# Altium footprint library PCBLib.PcbLib: 32 footprints (part 2 of 2)
Each footprint in its own frame and in the unit in brackets; x right, y up, seen from the top. Pads: shape width x height; smd on the part's side, far side on the other; paste and mask are expansions set on the pad; w line width, h text height; cw(c..) or ccw(c..) is an arc to the next point about the centre after c.
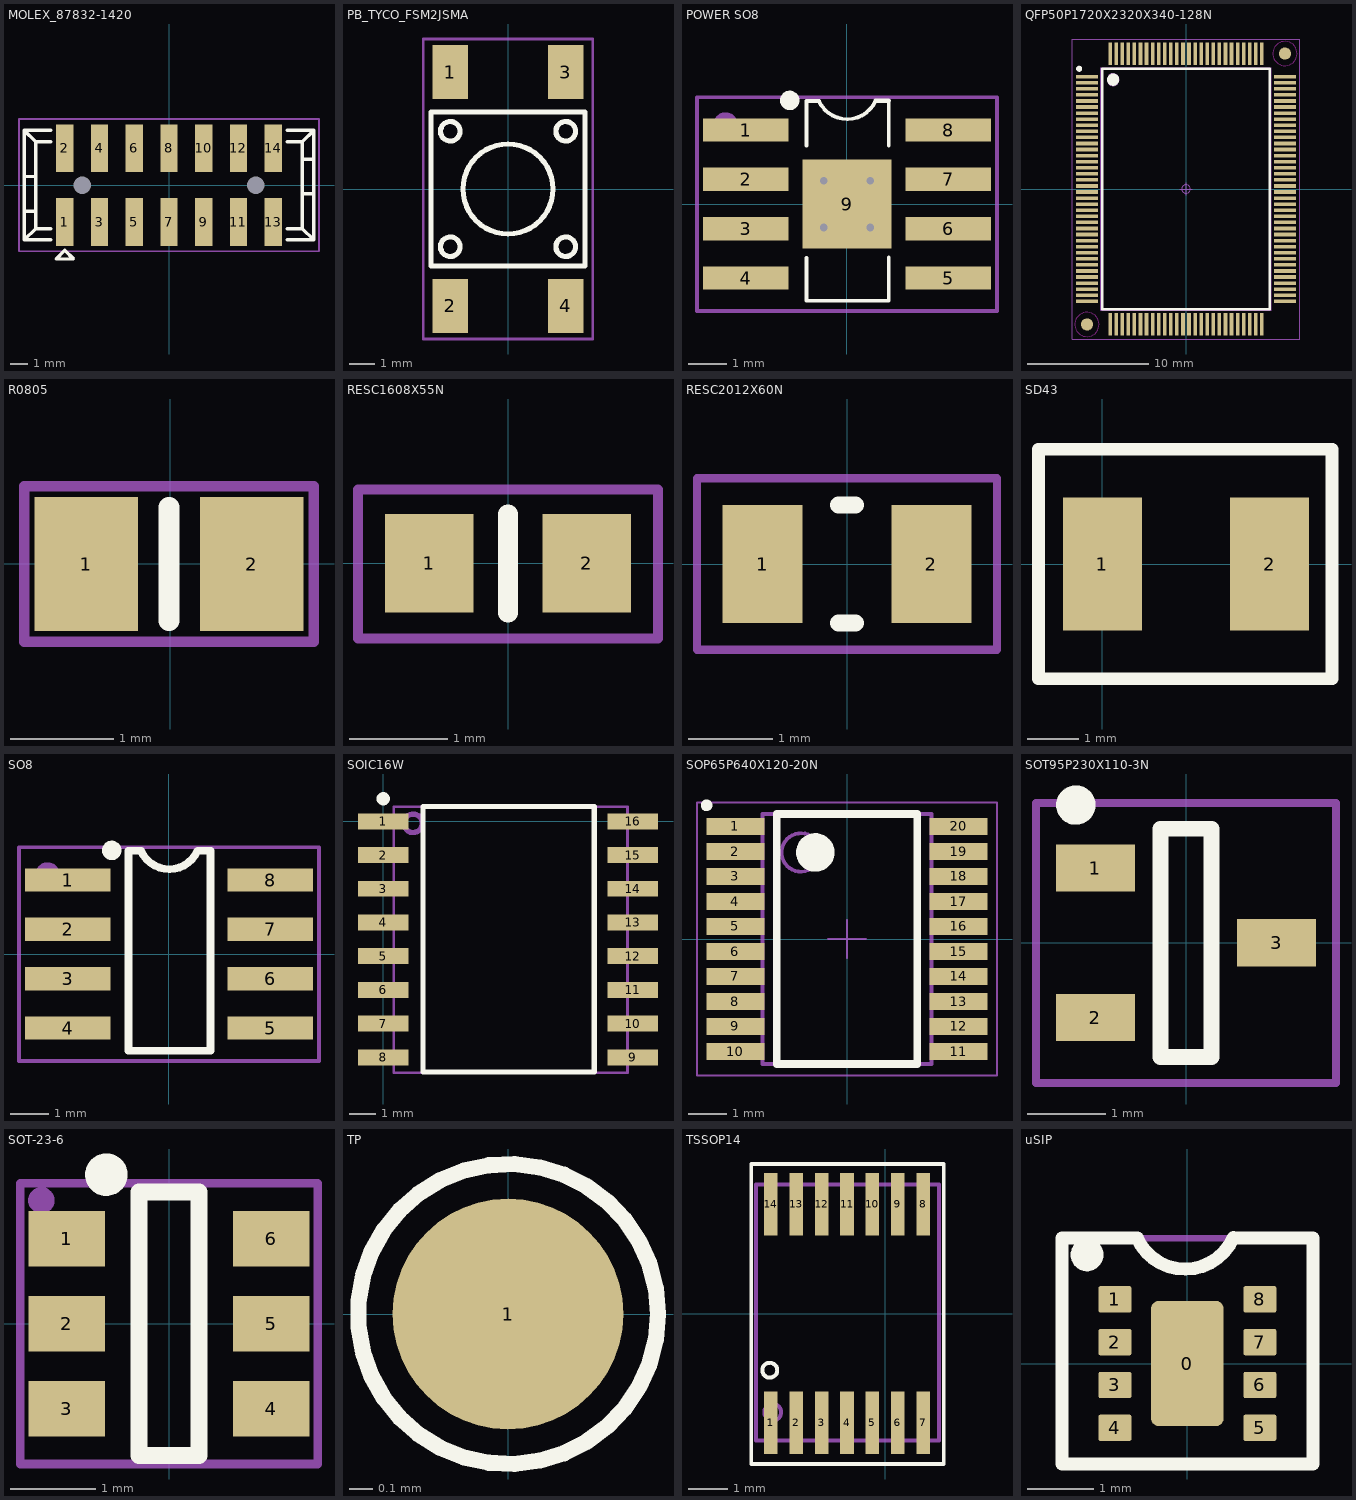
[diagram p1: the footprints below, top view; thin cyan lines are the x and y axes]

## MOLEX_87832-1420 [mm] "Milli-Grid, Pitch 2mm, 14 contacts, Surface Mount Vertical Header With Locking Window And Centre Polarization Slot"
height 6.4
pads (16):
  rect 1x2.75 smd: 1(-6,-2.125) 2(-6,2.125) 3(-4,-2.125) 4(-4,2.125) 5(-2,-2.125) 6(-2,2.125) 7(0,-2.125) 8(0,2.125) 9(2,-2.125) 10(2,2.125) 11(4,-2.125) 12(4,2.125) 13(6,-2.125) 14(6,2.125)
  round 0.5 hole 1 unplated: ""(-5,0) ""(5,0)
Top Overlay:
  lines w0.2: -8.325,-1.5 -7.675,-1.5 ; -8.325,0.5 -7.675,0.5 ; -6.8,-3.15 -8.325,-3.15 ; -6.8,-2.5 -7.675,-2.5 ; -6.8,2.5 -7.675,2.5 ; -6.8,3.15 -8.325,3.15 ; 6.8,-3.15 8.325,-3.15 ; 6.8,-2.5 7.675,-2.5 ; 6.8,2.5 7.675,2.5 ; 6.8,3.15 8.325,3.15 ; 7.675,-0.5 8.325,-0.5 ; 7.675,1.5 8.325,1.5 ; -8.325,-3.15 -8.325,3.15 ; -8.325,-3.15 -7.675,-2.5 ; -8.325,3.15 -7.675,2.5 ; -7.675,-2.5 -7.675,2.5 ; 7.675,-2.5 8.325,-3.15 ; 7.675,-2.5 8.325,-3.15 ; 7.675,-2.5 7.675,2.5 ; 7.675,2.5 8.325,3.15 ; 7.675,2.5 8.325,3.15 ; 8.325,-3.15 8.325,3.15 ; -6.5,-4.25 -6,-3.75 -5.5,-4.25 -6.5,-4.25
Mechanical 4:
  lines w0.1: -8.636,-3.81 8.636,-3.81 8.636,3.81 -8.636,3.81 -8.636,-3.81
  text ".Designator" at -0.111,-0.069 h1
3D body "MOLEX_87832-1420.stp": height 7.6, standoff -1, extent -8.325,-3.15 8.325,3.15

## PB_TYCO_FSM2JSMA [mm] "Body 6mm x 6mm, Surface Mount Tactile Switches, TYCO FSMJSMA Series"
height 4.59
pads (4):
  rect 1.4x2.1 smd: 1(-2.25,4.55) 2(-2.25,-4.55) 3(2.25,4.55) 4(2.25,-4.55)
Top Overlay:
  circle w0.2: c-2.248,-2.248 r0.381
  circle w0.2: c-2.248,2.248 r0.381
  circle w0.2: c2.248,-2.248 r0.381
  circle w0.2: c2.248,2.248 r0.381
  circle w0.2: c0,0 r1.753
  lines w0.2: -3,-3 3,-3 3,3 -3,3 -3,-3
Mechanical 4:
  lines w0.1: -3.302,-5.842 3.302,-5.842 3.302,5.842 -3.302,5.842 -3.302,-5.842
  text ".Designator" at -0.111,-0.069 h1
3D body "PB_TYCO_FSM2JSMA.stp": height 4.39, standoff 0, extent -3,-5 3,5

## POWER SO8 [mm]
pads (9):
  rect 2.2x0.6 smd: 1(-2.603,1.905) 2(-2.603,0.635) 3(-2.603,-0.635) 4(-2.603,-1.905) 5(2.603,-1.905) 6(2.603,-0.635) 7(2.603,0.635) 8(2.603,1.905)
  rect 2.29x2.29 smd: 9(0,0)
via -0.6,-0.6 diameter 0.6 hole 0.2
via 0.6,-0.6 diameter 0.6 hole 0.2
via 0.6,0.6 diameter 0.6 hole 0.2
via -0.6,0.6 diameter 0.6 hole 0.2
Top Overlay:
  circle w0.25: c-1.473,2.667 r0.125
  lines w0.1: -1.041,-1.384 -1.041,-2.489 1.075,-2.489 1.075,-1.375 ; -1.041,1.509 -1.041,2.656 -0.722,2.656 ccw(c0.007,2.982) 0.737,2.662 ; 1.075,1.5 1.075,2.662
  lines w0.11: 0.737,2.662 1.075,2.662
Mechanical 4:
  circle w0.2: c-3.125,2.05 r0.212
  lines w0.1: -3.861,-2.75 3.861,-2.75 3.861,2.75 -3.861,2.75 -3.861,-2.75
  text ".Designator" at 0,0 h1
3D body "so8.STEP": height 1.84, standoff 0.08, extent -3.068,-2.425 3.068,2.465

## QFP50P1720X2320X340-128N [mm] "QFP,0.50mm Pitch, Rect.; 128 pin, 20.00mm L X 14.00mm W X 3.40mm H body, IPC Medium Density"
height 3.4
pads (130):
  rect 1.85x0.3 smd: 1(-8.15,9.25) 2(-8.15,8.75) 3(-8.15,8.25) 4(-8.15,7.75) 5(-8.15,7.25) 6(-8.15,6.75) 7(-8.15,6.25) 8(-8.15,5.75) 9(-8.15,5.25) 10(-8.15,4.75) 11(-8.15,4.25) 12(-8.15,3.75) 13(-8.15,3.25) 14(-8.15,2.75) 15(-8.15,2.25) 16(-8.15,1.75) 17(-8.15,1.25) 18(-8.15,0.75) 19(-8.15,0.25) 20(-8.15,-0.25) 21(-8.15,-0.75) 22(-8.15,-1.25) 23(-8.15,-1.75) 24(-8.15,-2.25) 25(-8.15,-2.75) 26(-8.15,-3.25) 27(-8.15,-3.75) 28(-8.15,-4.25) 29(-8.15,-4.75) 30(-8.15,-5.25) 31(-8.15,-5.75) 32(-8.15,-6.25) 33(-8.15,-6.75) 34(-8.15,-7.25) 35(-8.15,-7.75) 36(-8.15,-8.25) 37(-8.15,-8.75) 38(-8.15,-9.25) 65(8.15,-9.25) 66(8.15,-8.75) 67(8.15,-8.25) 68(8.15,-7.75) 69(8.15,-7.25) 70(8.15,-6.75) 71(8.15,-6.25) 72(8.15,-5.75) 73(8.15,-5.25) 74(8.15,-4.75) 75(8.15,-4.25) 76(8.15,-3.75) 77(8.15,-3.25) 78(8.15,-2.75) 79(8.15,-2.25) 80(8.15,-1.75) 81(8.15,-1.25) 82(8.15,-0.75) 83(8.15,-0.25) 84(8.15,0.25) 85(8.15,0.75) 86(8.15,1.25) 87(8.15,1.75) 88(8.15,2.25) 89(8.15,2.75) 90(8.15,3.25) 91(8.15,3.75) 92(8.15,4.25) 93(8.15,4.75) 94(8.15,5.25) 95(8.15,5.75) 96(8.15,6.25) 97(8.15,6.75) 98(8.15,7.25) 99(8.15,7.75) 100(8.15,8.25) 101(8.15,8.75) 102(8.15,9.25)
  rect 0.3x1.85 smd: 39(-6.25,-11.15) 40(-5.75,-11.15) 41(-5.25,-11.15) 42(-4.75,-11.15) 43(-4.25,-11.15) 44(-3.75,-11.15) 45(-3.25,-11.15) 46(-2.75,-11.15) 47(-2.25,-11.15) 48(-1.75,-11.15) 49(-1.25,-11.15) 50(-0.75,-11.15) 51(-0.25,-11.15) 52(0.25,-11.15) 53(0.75,-11.15) 54(1.25,-11.15) 55(1.75,-11.15) 56(2.25,-11.15) 57(2.75,-11.15) 58(3.25,-11.15) 59(3.75,-11.15) 60(4.25,-11.15) 61(4.75,-11.15) 62(5.25,-11.15) 63(5.75,-11.15) 64(6.25,-11.15) 103(6.25,11.15) 104(5.75,11.15) 105(5.25,11.15) 106(4.75,11.15) 107(4.25,11.15) 108(3.75,11.15) 109(3.25,11.15) 110(2.75,11.15) 111(2.25,11.15) 112(1.75,11.15) 113(1.25,11.15) 114(0.75,11.15) 115(0.25,11.15) 116(-0.25,11.15) 117(-0.75,11.15) 118(-1.25,11.15) 119(-1.75,11.15) 120(-2.25,11.15) 121(-2.75,11.15) 122(-3.25,11.15) 123(-3.75,11.15) 124(-4.25,11.15) 125(-4.75,11.15) 126(-5.25,11.15) 127(-5.75,11.15) 128(-6.25,11.15)
  round 1 smd paste-0.51 mask+0.5: FTG1(-8.15,-11.15) FTG2(8.15,11.15)
Top Layer keep-out:
  circle w0.1: c8.15,11.15 r1
  circle w0.1: c-8.15,-11.15 r1
Top Overlay:
  circle w0.25: c-8.8,9.9 r0.125
  circle w0.5: c-6,9 r0.25
  lines w0.2: -6.9,-9.9 -6.9,9.9 6.9,9.9 6.9,-9.9 -6.9,-9.9
Mechanical 14:
  circle w0.1: c-6,9 r0.5
  lines w0.1: -7,-10 -7,10 7,10 7,-10 -7,-10
Mechanical 15:
  circle w0.05: c0,0 r0.35
  lines w0.05: -0.5,0 0.5,0 ; 0,-0.5 0,0.5 ; -9.35,-12.35 -9.35,12.35 9.35,12.35 9.35,-12.35 -9.35,-12.35
3D body "QFP50P1720X2320X340-128N.stp": height 3.4, standoff 0, extent -8.621,-11.621 8.621,11.621

## R0805 [mm] "R0805"
pads (2):
  rect 1x1.3 smd: 1(-0.813,0) 2(0.787,0)
Top Overlay:
  lines w0.2: -0.013,-0.55 -0.013,-0.275 -0.013,0.275 -0.013,0.55
Mechanical 4:
  lines w0.1: -1.413,-0.75 1.387,-0.75 1.387,0.75 -1.413,0.75 -1.413,-0.75
  text ".Designator" at -1.27,-0.508 h1
3D body "R0805.STEP": height 0.78, standoff 0, extent -1,-0.625 1,0.625

## RESC1608X55N [mm] "Chip Resistor, EIA 0603, Metric 1608, Body 1.6x0.8mm, IPC Medium Density"
height 0.55
pads (2):
  rect 0.9x1 smd: 1(-0.8,0) 2(0.8,0)
Top Overlay:
  lines w0.2: 0,-0.5 0,0.5
Mechanical 4:
  lines w0.1: -1.524,-0.762 1.524,-0.762 1.524,0.75 -1.524,0.75 -1.524,-0.762
  text ".Designator" at -1.397,-0.508 h1
3D body "RESC1608X55N.stp": height 0.55, standoff 0, extent -0.875,-0.475 0.875,0.475

## RESC2012X60N [mm] "Chip Resistor, EIA 0805, Metric 2012, Body 2.0x1.2mm, IPC Medium Density"
height 0.6
pads (2):
  rect 0.95x1.4 smd: 1(-1,0) 2(1,0)
Top Overlay:
  lines w0.2: -0.1,-0.7 0.1,-0.7 ; -0.1,0.7 0.1,0.7
Mechanical 4:
  lines w0.1: -1.778,-1.016 -1.778,1.016 1.778,1.016 1.778,-1.016 -1.778,-1.016
  text ".Designator" at -1.524,-0.508 h1
3D body "RESC2012X60N.stp": height 0.6, standoff 0, extent -1.1,-0.675 1.1,0.675

## SD43 [mm]
pads (2):
  rect 1.55x2.6 smd: 1(0,0) 2(3.28,0)
Top Overlay:
  lines w0.25: -1.25,-2.25 -1.25,2.25 4.5,2.25 4.5,-2.25 -1.25,-2.25
3D body "Coilcraft-SD43.STEP": height 3.45, standoff 0, extent -0.689,-2.1 3.939,2.1

## SO8 [mm]
pads (8):
  rect 2.2x0.6 smd: 1(-2.603,1.905) 2(-2.603,0.635) 3(-2.603,-0.635) 4(-2.603,-1.905) 5(2.603,-1.905) 6(2.603,-0.635) 7(2.603,0.635) 8(2.603,1.905)
Top Overlay:
  circle w0.25: c-1.473,2.667 r0.125
  lines w0.2: -1.041,-2.489 1.067,-2.489 1.067,2.662 0.737,2.662 cw(c0.007,2.982) -0.722,2.656 -1.041,2.656 -1.041,-2.489
Mechanical 4:
  circle w0.2: c-3.125,2.05 r0.212
  lines w0.1: -3.861,-2.75 3.861,-2.75 3.861,2.75 -3.861,2.75 -3.861,-2.75
  text ".Designator" at 0,0 h1
3D body "so8.STEP": height 1.84, standoff 0.08, extent -3.068,-2.425 3.068,2.465

## SOIC16W [mm] "SOIC, 16-Leads, Body 9,90x3,90mm, Pitch 1,27mm, IPC Medium Density (Narrow)"
height 1.75
pads (16):
  rect 1.9x0.6 smd: 1(0,0) 2(0,-1.27) 3(0,-2.54) 4(0,-3.81) 5(0,-5.08) 6(0,-6.35) 7(0,-7.62) 8(0,-8.89) 9(9.4,-8.89) 10(9.4,-7.62) 11(9.4,-6.35) 12(9.4,-5.08) 13(9.4,-3.81) 14(9.4,-2.54) 15(9.4,-1.27) 16(9.4,0)
Top Overlay:
  circle w0.25: c0,0.85 r0.125
  lines w0.2: 1.5,-9.445 7.95,-9.445 7.95,0.555 1.5,0.555 1.5,-9.445
Mechanical 4:
  circle w0.2: c1.125,-0.075 r0.347
  lines w0.1: 0.4,-9.475 9.2,-9.475 9.2,0.55 0.4,0.55 0.4,-9.475
  text ".Designator" at 3.625,-4.875 h1
3D body "User Library-so16w.STEP": height 3.5, standoff 0, extent -0.35,-9.562 9.95,0.638

## SOP65P640X120-20N [mm] "SOP, 20-Leads, Body 6.5x4.4mm, Pitch 0.65mm, IPC Medium Density"
height 1.2
pads (20):
  rect 1.5x0.45 smd: 1(-2.9,2.925) 2(-2.9,2.275) 3(-2.9,1.625) 4(-2.9,0.975) 5(-2.9,0.325) 6(-2.9,-0.325) 7(-2.9,-0.975) 8(-2.9,-1.625) 9(-2.9,-2.275) 10(-2.9,-2.925) 11(2.9,-2.925) 12(2.9,-2.275) 13(2.9,-1.625) 14(2.9,-0.975) 15(2.9,-0.325) 16(2.9,0.325) 17(2.9,0.975) 18(2.9,1.625) 19(2.9,2.275) 20(2.9,2.925)
Top Overlay:
  circle w0.254: c-3.65,3.475 r0.025
  circle w0.5: c-0.825,2.25 r0.25
  lines w0.2: -1.825,-3.25 -1.825,3.25 1.825,3.25 1.825,-3.25 -1.825,-3.25
Mechanical 14:
  circle w0.1: c-1.2,2.25 r0.5
  lines w0.1: -2.2,-3.25 -2.2,3.25 2.2,3.25 2.2,-3.25 -2.2,-3.25
Mechanical 15:
  lines w0.05: -0.5,0 0.5,0 ; 0,-0.5 0,0.5 ; -3.9,-3.55 -3.9,3.55 3.9,3.55 3.9,-3.55 -3.9,-3.55
3D body "SOP65P640X120-20N.stp": height 1.2, standoff 0, extent -3.121,-3.3 3.121,3.3

## SOT95P230X110-3N [mm] "SOT23, 3 pin, Pitch 0.95mm - 1.3mm W X 2.9mm L X 1.1mm H, IPC Medium Density"
height 1.1
pads (3):
  rect 1x0.6 smd: 1(-1.15,0.95) 2(-1.15,-0.95) 3(1.15,0)
Top Overlay:
  circle w0.25: c-1.4,1.75 r0.125
  lines w0.2: -0.325,-1.45 0.325,-1.45 0.325,1.45 -0.325,1.45 -0.325,-1.45
Mechanical 4:
  lines w0.1: -1.905,-1.778 1.905,-1.778 1.905,1.778 -1.905,1.778 -1.905,-1.778
  text ".Designator" at -1.016,-0.254 h1
3D body "SOT95P240X110-3N.stp": height 1.1, standoff 0, extent -1.166,-1.5 1.334,1.5

## SOT-23-6 [mm] "SOT23, 6-Leads, Body 3x1.5mm, Pitch 1mm, Lead Span 2.7mm, IPC High Density_LT6654AHS6-1.25#TRMPBF"
height 1.1
pads (6):
  rect 0.9x0.65 smd: 1(-1.2,1) 2(-1.2,0) 3(-1.2,-1) 4(1.2,-1) 5(1.2,0) 6(1.2,1)
Top Overlay:
  circle w0.25: c-0.737,1.753 r0.125
  lines w0.2: -0.35,-1.55 0.35,-1.55 0.35,1.55 -0.35,1.55 -0.35,-1.55
Mechanical 4:
  circle w0.2: c-1.5,1.45 r0.056
  lines w0.1: -1.75,-1.65 1.75,-1.65 1.75,1.65 -1.75,1.65 -1.75,-1.65
  text ".designator" at -1.016,-0.381 h1
3D body "SW3dPS-SOT-23-6.STEP": height 1.09, standoff 0, extent -1.213,-1.397 1.213,1.397

## TP [mm]
pads (1):
  round 1 smd: 1(0,0)
Top Overlay:
  circle w0.07: c0,0 r0.65

## TSSOP14 [mm]
pads (14):
  rect 0.35x1.6 smd: 1(-2.925,-2.8) 2(-2.275,-2.8) 3(-1.625,-2.8) 4(-0.975,-2.8) 5(-0.325,-2.8) 6(0.325,-2.8) 7(0.975,-2.8) 8(0.975,2.8) 9(0.325,2.8) 10(-0.325,2.8) 11(-0.975,2.8) 12(-1.625,2.8) 13(-2.275,2.8) 14(-2.925,2.8)
Top Overlay:
  circle w0.1: c-2.95,-1.45 r0.19
  lines w0.1: -3.425,-3.85 -3.425,3.825 1.5,3.825 1.5,-3.85 -3.425,-3.85
Mechanical 4:
  circle w0.1: c-2.875,-2.525 r0.215
  lines w0.1: -3.3,-3.25 1.375,-3.25 1.375,3.3 -3.3,3.3 -3.3,-3.25
  text ".Designator" at -2.15,-0.375 h1
3D body "SW3dPS-TSS0P8.STEP": height 1.09, standoff 0, extent -3.375,-3.065 -0.375,3.215
3D body "SW3dPS-TSS0P8.STEP": height 1.09, standoff 0, extent -1.425,-3.065 1.575,3.215

## uSIP [mm]
pads (9):
  rrect20% 1.1x1.9 smd paste-5: 0(0,0)
  rrect15% 0.5x0.4 smd: 1(-1.1,0.975) 2(-1.1,0.325) 3(-1.1,-0.325) 4(-1.1,-0.975) 5(1.1,-0.975) 6(1.1,-0.325) 7(1.1,0.325) 8(1.1,0.975)
Top Overlay:
  circle w0.25: c-1.524,1.651 r0.125
  lines w0.2: 0.697,1.91 cw(c-0.034,2.231) -0.762,1.905 -1.473,1.905 -1.905,1.905 -1.905,-1.524 1.905,-1.524 1.905,1.905 0.737,1.905
Top Paste:
  pour cut-out: -0.188,0.263 -0.337,0.113 -0.488,0.113 -0.488,0.563 -0.613,0.688
Mechanical 4:
  lines w0.1: -1.905,-1.524 1.905,-1.524 1.905,1.905 -1.905,1.905 -1.905,-1.524
  lines w0.2: -1.524,1.524 ccw(c-1.736,1.531) -1.524,1.531
  text ".Designator" at -1.6,-0.6 h1
3D body: height 1.4, standoff 0, extent -0.889,-0.889 0.889,0.889
3D body: height 0.4, standoff 0, extent -1.397,-1.397 1.397,1.397